# Altium schematic symbol library pwr_reg_linear.SchLib: 16 symbols
Pins are listed as number, name and electrical type; pins without a type are passive.

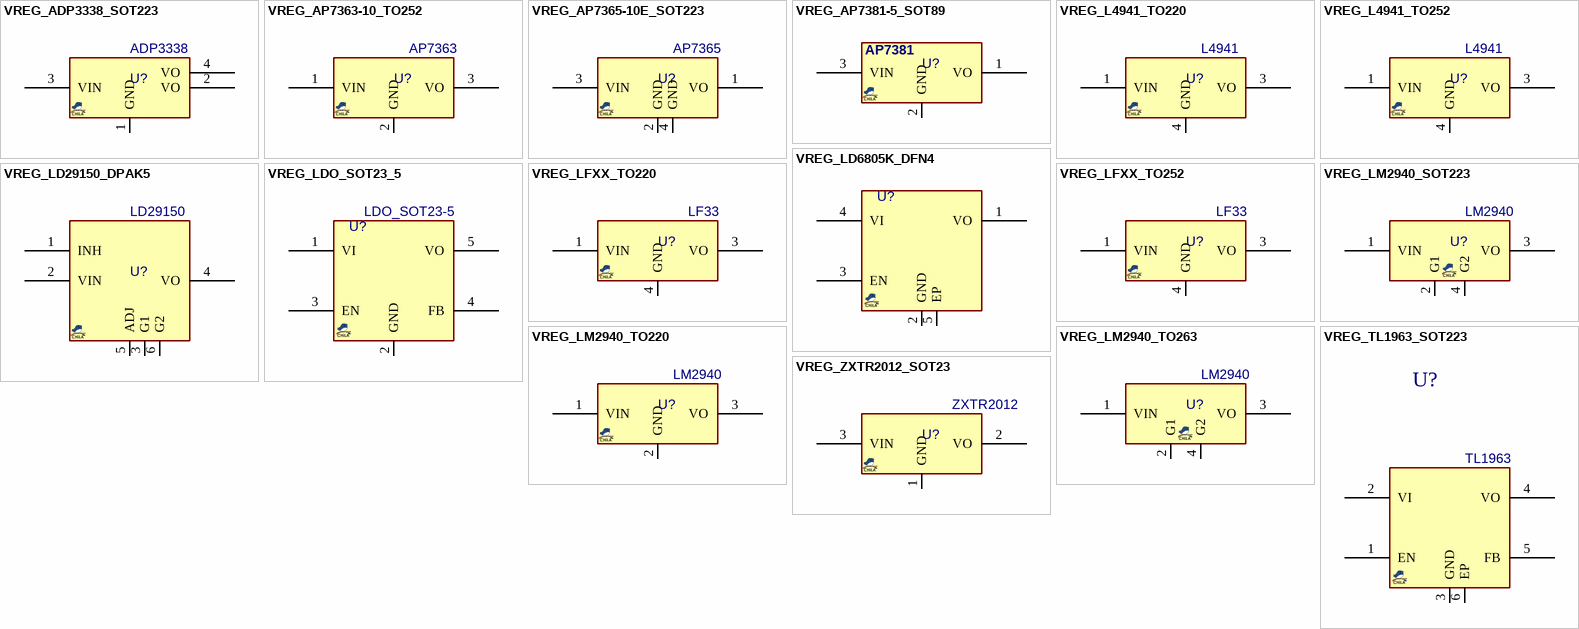
[diagram p0: symbols VREG_ADP3338_SOT223 to VREG_ZXTR2012_SOT23]

## VREG_ADP3338_SOT223
designator U?, comment ADP3338
REG, Linear, LDO0.18V, 1A, SOT-223; MANF_P#: ADP3338AKCZ; MANF: AD; PARAM2: 1.5/1.8/2.5/2.85/3/3.3/5V; PARAM: LDO0.18V, 1A; VALUE: ADP3338
footprint SOT223_4 (SOT223, 4-Leads, Body 6.5x3.5mm, Pitch 2.30mm)
pins: 1 GND, 2 VO, 3 VIN, 4 VO

## VREG_AP7363-10_TO252
designator U?, comment AP7363
REG, Linear, LDO0.19V, 1.5A, TO-252; MANF_P#: AP7363-10D; MANF: DIODES; PARAM: LDO1V, 1.5A; PARAM2: 1.0V FIXED; PRICE: 0.5$; VALUE: AP7363
footprint DPAK_3 (D-PAK (TO-252), 3-Pads, Body 6.2x6.7mm)
pins: 1 VIN, 2 GND, 3 VO

## VREG_AP7365-10E_SOT223
designator U?, comment AP7365
REG, Linear, LDO0.37V, 0.6A, SOT-223; MANF_P#: AP7365-10EG-13; MANF: DIODES; PARAM: LDO0.37V, 0.6A, -40~85oC; PARAM2: 1.0V FIXED; PRICE: 0.5$; VALUE: AP7365
footprint SOT223_4 (SOT223, 4-Leads, Body 6.5x3.5mm, Pitch 2.30mm)
pins: 1 VO, 2 GND, 3 VIN, 4 GND

## VREG_AP7381-5_SOT89
designator U?, comment AP7381  (value not drawn)
REG, Linear, LDO1V, 0.15A, SOT-89; MANF_P#: AP7381-50Y; MANF: DIODES; PARAM: LDO1V, 0.15A, -40~85oC; PARAM2: 3.3~40Vin, 5.0V FIXED; PRICE: 0.3$; VALUE: AP7381
footprint SOT89_3 (SOT89, SOT-89, SBF-4089, SOT89A, GALI, SC-62, DF782, TO-243AA(JEDEC), 1.5mm pitch)
pins: 1 VO, 2 GND, 3 VIN

## VREG_L4941_TO220
designator U?, comment L4941
REG, Linear, LDO0.45V, 5V, 1A, TO-220; MANF_P#: L4941BV; MANF: ST; PARAM: LDO0.45V, 5V, 1A; PARAM2: -; PRICE: -; VALUE: L4941
footprint TO220_3 (TO-220 3 LEAD, TO-262, pitch: 2.54mm  10x4.5mm)
pins: 1 VIN, 3 VO, 4 GND

## VREG_L4941_TO252
designator U?, comment L4941
REG, Linear, LDO0.45V, 5V, 1A, TO-252; MANF_P#: L4941BDT; MANF: ST; PARAM: LDO0.45V, 5V, 1A; PARAM2: -; PRICE: 1800t@PAYA; VALUE: L4941
footprint DPAK_3 (D-PAK (TO-252), 3-Pads, Body 6.2x6.7mm)
pins: 1 VIN, 3 VO, 4 GND

## VREG_LD6805K_DFN4
designator U?, comment LD6805K
REG, Linear, LDO0.25V, Fixed, 150mA, VIN2.3~5.25V, VOUT1.2~3.6V,DFN4 1X1mm; MANF: NXP; MANF_P#: LD6805K/33P; PARAM2: 70dB PSRR; PARAM: LDO0.25V, Fixed3.3V, 150mA; PRICE: $0.3; VALUE: LD6805K
footprint SON65_4T_1010 (DFN(PLP)1010-4, DFN1010C-4, 1.0X1.0mm, 0.65mm pitch)
pins: 1 VO, 2 GND, 3 EN, 4 VI, 5 EP

## VREG_LD29150_DPAK5
designator U?, comment LD29150
REG, Linear, LDO0.4V, ADJ, 1.5A,; MANF_P#: LD29150PTR; MANF: ST; PARAM: LDO0.4V, 1.5A; PARAM2: ADJ; PRICE: 4000t; VALUE: LD29150
footprint DPAK_5 (D-PAK (TO-252), 5-Pads, Body 6.2x6.7mm)
pins: 1 INH, 2 VIN, 3 G1, 4 VO, 5 ADJ, 6 G2

## VREG_LDO_SOT23_5
designator U?, comment LDO_SOT23-5
REG, Linear, LDO, SOT-23-5; MANF_P#: AS1353, MIC5504YM5, MCP1824T-3302E/OT, ADP122AUJZ, TLV70233DBVR, LDK130M33R, NCP603SN, AP2210K, AP7331, AP2125K, RP114N; MANF: -; VALUE: LDO_SOT23-5
footprint SOT23_5 (SOT-23-5, SOT25, SOT-25, DBV(R-PDSO-G5), TSOT23-5, SC-74A, SOT23-5, S5-T (LINEAR), MO-178AA, MO-193AB(JEDEC), MF05A (NS), TSOP-6(ON), UJ-5 (AD))
pins: 1 VI, 2 GND, 3 EN, 4 FB, 5 VO

## VREG_LFXX_TO220
designator U?, comment LF33
REG, Linear, LDO0.45V, 0.5A, TO-220; MANF: ST; PARAM2: 1.5/1.8/2.5/3.3/5V; MANF_P#: LF33; PARAM: LDO0.45V, 0.5A; PRICE: 1500t; VALUE: LF33
footprint TO220_3 (TO-220 3 LEAD, TO-262, pitch: 2.54mm  10x4.5mm)
pins: 1 VIN, 3 VO, 4 GND

## VREG_LFXX_TO252
designator U?, comment LF33
REG, Linear, LDO0.45V, 0.5A, TO-252; MANF_P#: LF33CDT; MANF: ST; PARAM: LDO0.45V, 0.5A,  82dB@120Hz; PARAM2: 1.5/1.8/2.5/3.3/5V; PRICE: 1500t; VALUE: LF33
footprint DPAK_3 (D-PAK (TO-252), 3-Pads, Body 6.2x6.7mm)
pins: 1 VIN, 3 VO, 4 GND

## VREG_LM2940_SOT223
designator U?, comment LM2940
REG, Linear, LDO0.5V, 0.5A, SOT-223; MANF: TI; MANF_P#: LM2940; PARAM: LDO0.5V, 0.5A; PARAM2: PARAM2; VALUE: LM2940
footprint SOT223_4 (SOT223, 4-Leads, Body 6.5x3.5mm, Pitch 2.30mm)
pins: 1 VIN, 2 G1, 3 VO, 4 G2

## VREG_LM2940_TO220
designator U?, comment LM2940
REG, Linear, LDO0.5V, 1A, TO-220; MANF: TI; MANF_P#: LM2940; PARAM: LDO0.5V, 1A; PARAM2: PARAM2; VALUE: LM2940
footprint TO220_3 (TO-220 3 LEAD, TO-262, pitch: 2.54mm  10x4.5mm)
pins: 1 VIN, 2 GND, 3 VO

## VREG_LM2940_TO263
designator U?, comment LM2940
REG, Linear, LDO0.5V, 1A, TO-263; MANF: TI; MANF_P#: LM2940; PARAM: LDO0.5V, 1A; PARAM2: PARAM2; VALUE: LM2940
footprint D2PAK_3 (D2-PAK, 4-Pads, Body 7.6x8.6mm)
pins: 1 VIN, 2 G1, 3 VO, 4 G2

## VREG_TL1963_SOT223
designator U?, comment TL1963
REG, Linear, LDO0.34V, 1.5A, SOT223; MANF_P#: TL1963ADC; MANF: TI; PRICE: -; PARAM2: LDO0.34V, 1.5A; VALUE: TL1963
footprint SOT223_6
pins: 1 EN, 2 VI, 3 GND, 4 VO, 5 FB, 6 EP

## VREG_ZXTR2012_SOT23
designator U?, comment ZXTR2012
REG, Linear, 100VIN, 0.03A, SOT-23; MANF_P#: ZXTR2012FF; MANF: DIODES; PARAM: 0.03A, -65~+150oC; PARAM2: 15~100Vin, Out: 12v ± 10% fixed; PRICE: 0.5$; VALUE: ZXTR2012
footprint SOT23_3 (SOT-23, Micro3, MO-178, TO-236AB, MO-193C, SuperSOT3, SC-59, 1.9mm pitch 3X1.5mm body)
pins: 1 GND, 2 VO, 3 VIN